# EAGLE library part RFM69HCW (library MyComponents)
RFM69HCW transceiver module
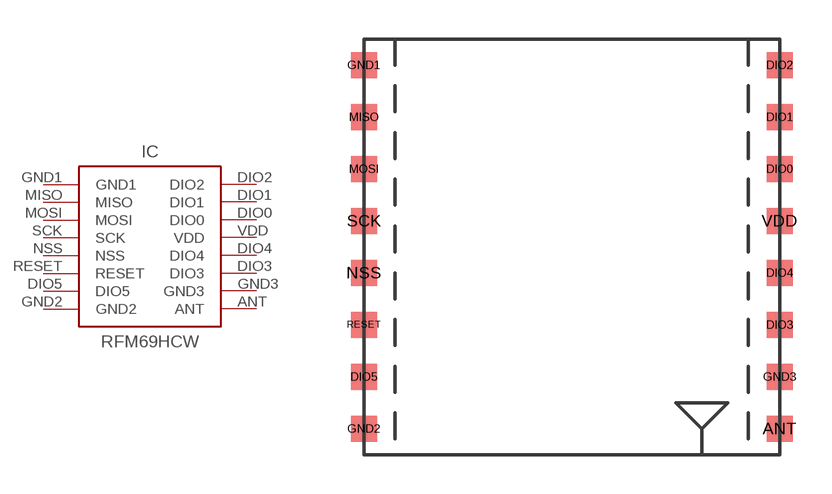
[diagram p16: symbol with the pads of RFM69HCW; footprint RFM69HCW]

Designator prefix IC

## RFM69HCW (MOUSER: 474-COM-13910)  [RFM69HCW]
ANT  ANT
DIO0  DIO0
DIO1  DIO1
DIO2  DIO2
DIO3  DIO3
DIO4  DIO4
DIO5  DIO5
GND1  GND1
GND2  GND2
GND3  GND3
MISO  MISO
MOSI  MOSI
NSS  NSS
RESET  RESET
SCK  SCK
VDD  VDD

## Footprint RFM69HCW (pad centres in mm)
smd 1 x 1: ANT 8,-7; DIO0 8,3; DIO1 8,5; DIO2 8,7; DIO3 8,-3; DIO4 8,-1; DIO5 -8,-5; GND1 -8,7; GND2 -8,-7; GND3 8,-5; MISO -8,5; MOSI -8,3; NSS -8,-1; RESET -8,-3; SCK -8,1; VDD 8,1